# EAGLE library part S1G8_JUMP (library #PaJa_konektory)
Radove konektory - koliky - 8x
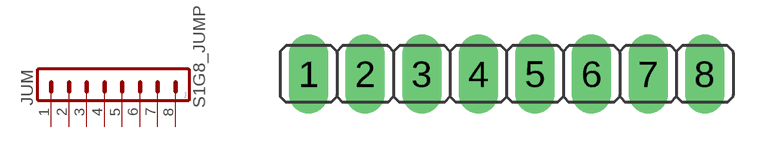
[diagram p21: symbol with the pads of S1G8_JUM; footprint S1G8_JUM]

Designator prefix JUM

## S1G8_JUMP  [S1G8_JUM]
1  1  pas
2  2  pas
3  3  pas
4  4  pas
5  5  pas
6  6  pas
7  7  pas
8  8  pas

## Footprint S1G8_JUM (pad centres in mm)
drill 1.016 pad 1.778 long: 1 -8.89,0; 2 -6.35,0; 3 -3.81,0; 4 -1.27,0; 5 1.27,0; 6 3.81,0; 7 6.35,0; 8 8.89,0